# Altium footprint library Resistors.PcbLib: 17 footprints (part 1 of 2)
Each footprint in its own frame and in the unit in brackets; x right, y up, seen from the top. Pads: shape width x height; smd on the part's side, far side on the other; paste and mask are expansions set on the pad; w line width, h text height; cw(c..) or ccw(c..) is an arc to the next point about the centre after c.
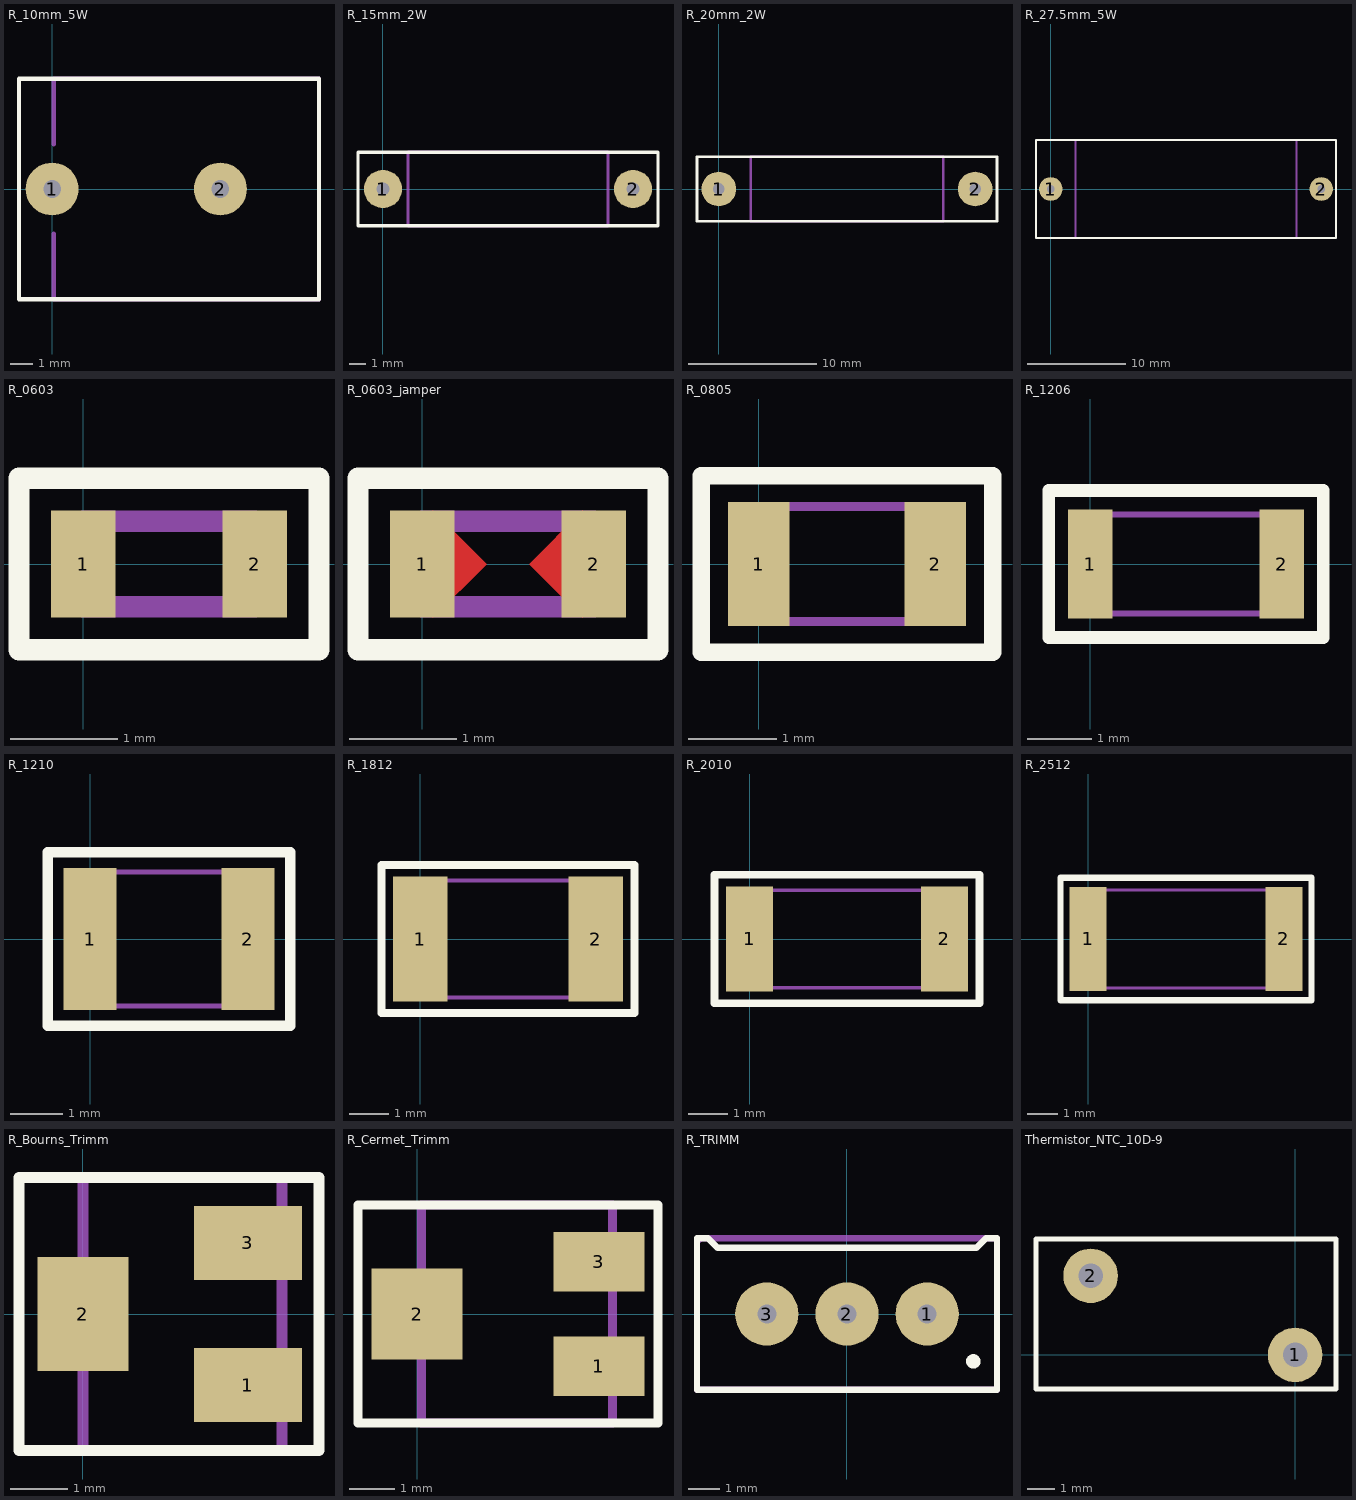
[diagram p0: the footprints below, top view; thin cyan lines are the x and y axes]

## R_10mm_5W [mm]
height 9.2
pads (2):
  round 2.4 hole 0.8: 1(0,0) 2(7.63,0)
Top Overlay:
  lines w0.2: -1.5,-5 -1.5,0 -1.5,5 12.1,5 12.1,-5 -1.5,-5
TopAssy:
  lines w0.2: 0.08,-2.02 0.08,-5 12.1,-5 12.1,5 0.08,5 0.08,2.02
3D body: height 25.84, standoff -3.1, extent -0.372,-5 12.122,5

## R_15mm_2W [mm]
height 5
pads (2):
  round 2.3 hole 0.8: 1(0,0) 2(15,0)
Top Overlay:
  lines w0.2: -1.5,-2.2 16.5,-2.2 16.5,2.2 -1.5,2.2 -1.5,0 -1.5,-2.2
TopAssy:
  lines w0.2: 1.5,-2.2 13.5,-2.2 13.5,2.2 1.5,2.2 1.5,-2.2
3D body: height 5.25, standoff -1.5, extent -0.35,-2.25 15.35,2.25

## R_20mm_2W [mm]
height 5
pads (2):
  round 2.7 hole 0.9: 1(0,0) 2(20,0)
Top Overlay:
  lines w0.2: -1.7,0 -1.7,2.5 21.7,2.5 21.7,-2.5 -1.7,-2.5 -1.7,0.1
TopAssy:
  lines w0.2: 2.5,-2.5 2.5,2.5 17.5,2.5 17.5,-2.5 2.5,-2.5
3D body: height 5.5, standoff -1.7, extent -0.4,-2.5 20.4,2.5

## R_27.5mm_5W [mm]
height 9.2
pads (2):
  round 2.4 hole 0.8: 1(0,0) 2(27.5,0)
Top Overlay:
  lines w0.2: -1.5,-5 -1.5,0 -1.5,5 29,5 29,-5 -1.5,-5
TopAssy:
  lines w0.2: 2.5,-5 2.5,5 25,5 25,-5 2.5,-5
3D body: height 9.5, standoff -4.94, extent 0.65,-4.75 26.85,4.75

## R_0603 [mm]
pads (2):
  rect 0.6x1 smd: 1(0,0) 2(1.6,0)
Top Overlay:
  lines w0.2: -0.6,-0.8 -0.6,0.8 2.2,0.8 2.2,-0.8 -0.6,-0.8
TopAssy:
  lines w0.2: 0,-0.4 0,0.4 1.6,0.4 1.6,-0.4 0,-0.4
3D body: height 0.5, standoff 0, extent 0,-0.4 1.6,0.4

## R_0603_jamper [mm]
pads (2):
  rect 0.6x1 smd: 1(0,0) 2(1.6,0)
Top Layer:
  region: 0.1,0.5 0.6,0 0.1,-0.5
  region: 1.5,0.5 1,0 1.5,-0.5
Top Overlay:
  lines w0.2: -0.6,-0.8 2.2,-0.8 2.2,0.8 -0.6,0.8 -0.6,-0.8
TopAssy:
  lines w0.2: 0,-0.4 1.6,-0.4 1.6,0.4 0,0.4 0,-0.4
3D body: height 0.5, standoff 0, extent 0,-0.4 1.6,0.4

## R_0805 [mm] "Chip Resistor, Body 2.0x1.2mm, IPC Medium Density"
height 0.7
pads (2):
  rect 0.7x1.4 smd: 1(0,0) 2(2,0)
Top Overlay:
  lines w0.2: -0.65,-1 2.65,-1 2.65,1 -0.65,1 -0.65,-1
TopAssy:
  lines w0.1: 0,-0.65 0,0.65 2,0.65 2,-0.65 0,-0.65
3D body: height 0.5, standoff 0, extent 0,-0.6 2,0.6

## R_1206 [mm] "Chip Resistor, Body 3.2x1.6mm"
height 1.3
pads (2):
  rect 0.7x1.7 smd: 1(0,0) 2(3,0)
Top Overlay:
  lines w0.2: -0.65,-1.15 -0.65,1.15 3.65,1.15 3.65,-1.15 -0.65,-1.15
TopAssy:
  lines w0.1: 0,-0.775 0,0.775 3,0.775 3,-0.775 0,-0.775
3D body: height 0.65, standoff 0, extent -0.05,-0.8 3.05,0.8

## R_1210 [mm] "Chip Resistor, Body 3.2x2.5mm"
height 0.9
pads (2):
  rect 1x2.7 smd: 1(0,0) 2(3,0)
Top Overlay:
  lines w0.2: -0.8,-1.65 3.8,-1.65 3.8,1.65 -0.8,1.65 -0.8,-1.65
TopAssy:
  lines w0.1: 0,-1.275 0,1.275 3,1.275 3,-1.275 0,-1.275
3D body: height 0.65, standoff 0, extent -0.1,-1.25 3.1,1.25

## R_1812 [mm] "Chip Resistor, Body 6.4x3.2mm, IPC High Density"
height 0.9
pads (2):
  rect 1.4x3.2 smd: 1(0,0) 2(4.5,0)
Top Overlay:
  lines w0.2: -1,-1.9 5.5,-1.9 5.5,1.9 -1,1.9 -1,-1.9
TopAssy:
  lines w0.1: 0,-1.5 4.5,-1.5 4.5,1.5 0,1.5 0,-1.5
3D body: height 0.7, standoff 0, extent 0,-1.6 4.5,1.6

## R_2010 [mm] "Chip Resistor, Body 5.0x2.5mm"
height 0.9
pads (2):
  rect 1.2x2.7 smd: 1(0,0) 2(5,0)
Top Overlay:
  lines w0.2: -0.9,-1.65 5.9,-1.65 5.9,1.65 -0.9,1.65 -0.9,-1.65
TopAssy:
  lines w0.1: 0,-1.25 5,-1.25 5,1.25 0,1.25 0,-1.25
Mechanical 15:
  lines w0.1: -0.5,0 0.5,0 ; 0,-0.5 0,0.5
3D body: height 0.7, standoff 0, extent 0,-1.25 5,1.25

## R_2512 [mm] "Chip Resistor, Body 6.4x3.2mm, IPC High Density"
height 0.9
pads (2):
  rect 1.2x3.4 smd: 1(0,0) 2(6.4,0)
Top Overlay:
  lines w0.2: -0.9,-2 -0.9,2 7.3,2 7.3,-2 -0.9,-2
TopAssy:
  lines w0.1: 0,-1.6 6.4,-1.6 6.4,1.6 0,1.6 0,-1.6
3D body: height 0.7, standoff 0, extent 0.05,-1.55 6.35,1.55

## R_Bourns_Trimm [mm]
pads (3):
  rect 1.9x1.3 smd: 1(2.9,-1.25) 3(2.9,1.25)
  rect 1.6x2 smd: 2(0,0)
Top Overlay:
  lines w0.2: -1.125,-2.4 -1.125,0.55 -1.125,2.4 4.15,2.4 4.15,-2.4 -1.125,-2.4
TopAssy:
  lines w0.2: 0,-2.4 0,2.4 3.5,2.4 3.5,-2.4 0,-2.4
3D body: height 5, standoff 0, extent 0,-2.425 3.525,2.4

## R_Cermet_Trimm [mm]
pads (3):
  rect 2x1.3 smd: 1(4,-1.15) 3(4,1.15)
  rect 2x2 smd: 2(0,0)
Top Overlay:
  lines w0.2: -1.3,-2.4 -1.3,2.4 5.3,2.4 5.3,-2.4 -1.3,-2.4
TopAssy:
  lines w0.2: 0.1,-2.4 0.1,2.4 4.3,2.4 4.3,-2.4 0.1,-2.4
3D body: height 5, standoff 0, extent 0.1,-2.4 4.3,2.4

## R_TRIMM [mm]
pads (3):
  round 2 hole 0.6: 1(2.54,0) 2(0,0) 3(-2.54,0)
Top Overlay:
  circle w0.254: c4,-1.5 r0.1
  lines w0.2: -4.75,-2.4 -4.75,2.4 -4.4,2.4 -4.1,2.1 4.1,2.1 4.4,2.4 4.75,2.4 4.75,-2.4 -4.75,-2.4
TopAssy:
  lines w0.2: -4.75,-2.4 4.75,-2.4 4.75,2.389 4.7,2.4 -4.6,2.4 -4.75,2.3 -4.75,-2.4
3D body: height 11.55, standoff -6.4, extent -4.765,-2.4 4.765,2.431

## Thermistor_NTC_10D-9 [mm]
height 18
pads (2):
  round 2 hole 0.9: 1(0,0) 2(-7.5,2.9)
Top Overlay:
  lines w0.2: -9.5,-1.25 1.5,-1.25 1.5,4.25 -9.5,4.25 -9.5,-1.25
3D body: height 13, standoff -2.5, extent -9.893,-0.915 2.393,3.917